# Altium schematic symbol library SamacSys.SchLib: 2 symbols
Pins are listed as number, name and electrical type; pins without a type are passive.

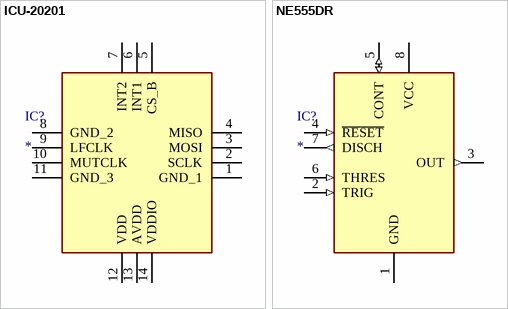
[diagram p0: symbols ICU-20201 to NE555DR]

## ICU-20201
designator IC?
Integrated Circuit; Manufacturer_Name: TDK; Manufacturer_Part_Number: ICU-20201; Datasheet Link: https://invensense.tdk.com/wp-content/uploads/2023/06/ds-000478_icu-20201-datasheet.pdf; Height: 1.36mm; Mouser Part Number: 410-ICU-20201; Mouser Price/Stock: https://www.mouser.co.uk/ProductDetail/TDK-InvenSense/ICU-20201?qs=tlsG%2FOw5FFgKqFXdb%252Bw4xQ%3D%3D; Arrow Part Number: ICU-20201; Arrow Price/Stock: https://www.arrow.com/en/products/icu-20201/invensense?region=nac
footprint ICU20201
pins: 1 GND_1, 2 SCLK, 3 MOSI, 4 MISO, 5 CS_B, 6 INT1, 7 INT2, 8 GND_2, 9 LFCLK, 10 MUTCLK, 11 GND_3, 12 VDD, 13 AVDD, 14 VDDIO

## NE555DR
designator IC?
Integrated Circuit; Manufacturer_Name: Texas Instruments; Manufacturer_Part_Number: NE555DR; Datasheet Link: http://www.ti.com/lit/ds/symlink/ne555.pdf; Height: 1.75mm; Mouser Part Number: 595-NE555DR; Mouser Price/Stock: https://www.mouser.com/Search/Refine.aspx?Keyword=595-NE555DR; RS Part Number: 1218414; RS Price/Stock: http://uk.rs-online.com/web/p/products/1218414
footprint SOIC127P600X175-8N
pins: 1 GND (power), 2 TRIG (in), 3 OUT (out), 4 ~{RESET} (in), 5 CONT (io), 6 THRES (in), 7 DISCH (out), 8 VCC (power)